# EAGLE library part TPS1H000 (library texas)
SINGLE CHANNEL HIGH SIDE POWER S
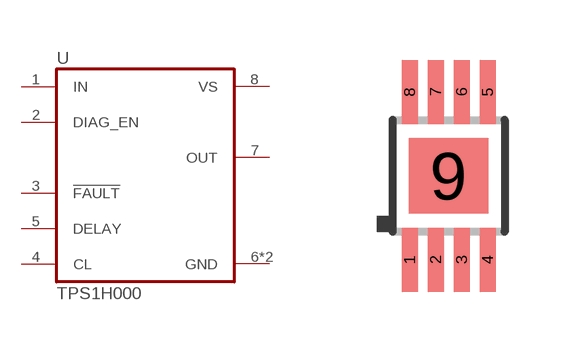
[diagram p126: symbol with the pads of MSOP08-POWERPAD; footprint MSOP08-POWERPAD]

Designator prefix U

## TPS1H000  [MSOP08-POWERPAD]
1  IN  in
2  DIAG_EN  in
3  !FAULT  oc
4  CL  out
5  DELAY
6  GND  pwr
7  OUT  out
8  VS  in
9  GND  pwr

## Footprint MSOP08-POWERPAD (pad centres in mm)
MSOP 8 - PowerPAD pitch 0.65 mm, DGN package Texas Instruments
smd 0.4 x 1.6: 1 -0.975,-2.1; 2 -0.325,-2.1; 3 0.325,-2.1; 4 0.975,-2.1; 5 0.975,2.1; 6 0.325,2.1; 7 -0.325,2.1; 8 -0.975,2.1
smd 1.98 x 1.88: 9 0,0